# Altium footprint library SOIC8P127_492X600X180L50X41.PcbLib: 1 footprints
Each footprint in its own frame and in the unit in brackets; x right, y up, seen from the top. Pads: shape width x height; smd on the part's side, far side on the other; paste and mask are expansions set on the pad; w line width, h text height; cw(c..) or ccw(c..) is an arc to the next point about the centre after c.
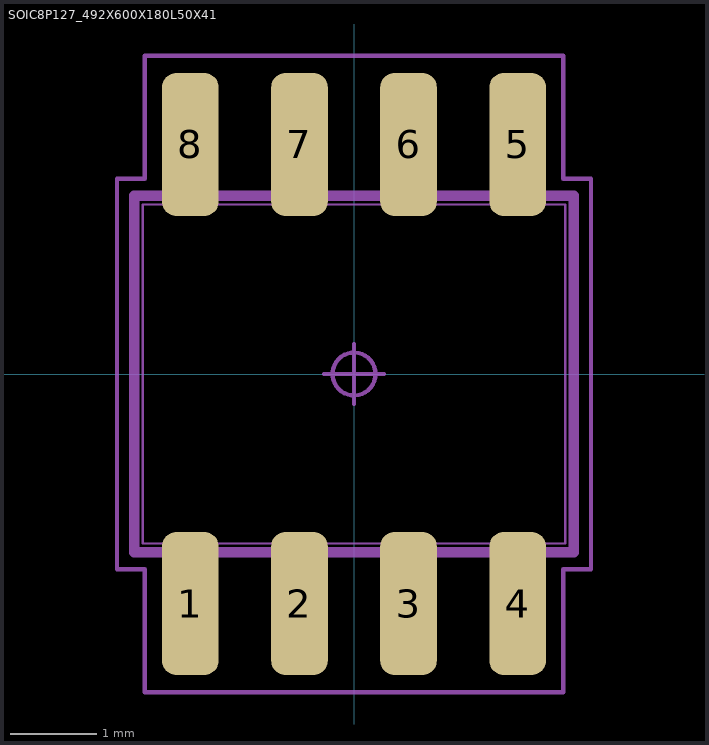
[diagram p0: the footprint, top view; thin cyan lines are the x and y axes]

## SOIC8P127_492X600X180L50X41 [mm] "Small Outline IC, 1.27 mm pitch; 8 pin, 4.92 mm L X 3.95 mm W X 1.80 mm H Body"
height 1.8
pads (8):
  rrect50% 0.659x1.665 smd: 1(-1.905,-2.673) 2(-0.635,-2.673) 3(0.635,-2.673) 4(1.905,-2.673) 5(1.905,2.673) 6(0.635,2.673) 7(-0.635,2.673) 8(-1.905,2.673)
Mechanical 3:
  lines w0.12: -2.56,-2.075 -2.56,2.075 2.56,2.075 2.56,-2.075 -2.56,-2.075
Mechanical 5:
  lines w0.025: -2.46,-1.975 -2.46,1.975 2.46,1.975 2.46,-1.975 -2.46,-1.975 ; -2.11,-3 -1.7,-3 -1.7,-2.5 -2.11,-2.5 -2.11,-3 ; -2.11,2.5 -1.7,2.5 -1.7,3 -2.11,3 -2.11,2.5 ; -0.84,-3 -0.43,-3 -0.43,-2.5 -0.84,-2.5 -0.84,-3 ; -0.84,2.5 -0.43,2.5 -0.43,3 -0.84,3 -0.84,2.5 ; 0.43,-3 0.84,-3 0.84,-2.5 0.43,-2.5 0.43,-3 ; 0.43,2.5 0.84,2.5 0.84,3 0.43,3 0.43,2.5 ; 1.7,-3 2.11,-3 2.11,-2.5 1.7,-2.5 1.7,-3 ; 1.7,2.5 2.11,2.5 2.11,3 1.7,3 1.7,2.5
Mechanical 7:
  circle w0.05: c0,0 r0.25
  lines w0.05: -0.35,0 0.35,0 ; 0,-0.35 0,0.35 ; -2.76,-2.275 -2.76,2.275 -2.435,2.275 -2.435,3.705 2.435,3.705 2.435,2.275 2.76,2.275 2.76,-2.275 2.435,-2.275 2.435,-3.705 -2.435,-3.705 -2.435,-2.275 -2.76,-2.275
Mechanical 9:
  text "'.Designator'" at -4.064,4.826 h1.52
3D body "SOIC8P127_492X600X180L50X41.STEP": height 1.8, standoff 0, extent -2.46,-3 2.46,3
3D body: height 3.65, standoff -3.65, extent -2.76,-3.705 2.76,3.705